# EAGLE library part SST26VF064BEUI (library memory-serial-flash-microchip)
64 Mbit Serial Quad I/O (SQI) Flash Memory with EUI-48™ and EUI-64™ Identifier
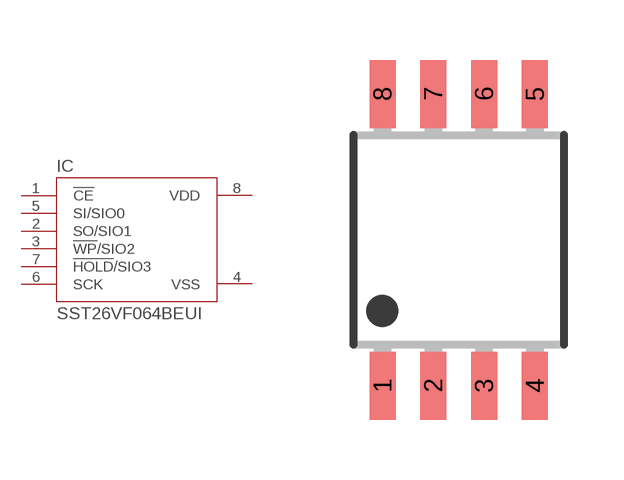
[diagram p0: symbol with the pads of SO8W; footprint SO8W]

Designator prefix IC

## SST26VF064BEUI  [SO8W]
1  !CE!
2  SO/SIO1
3  !WP!/SIO2
4  VSS
5  SI/SIO0
6  SCK
7  !HOLD!/SIO3
8  VDD

## Footprint SO8W (pad centres in mm)
8-Lead Plastic Small Outline (SM) - Medium, 5.28mm (.208 Inch) Body [SOIJ]
smd 0.65 x 1.7: 1 -1.905,-3.65; 2 -0.635,-3.65; 3 0.635,-3.65; 4 1.905,-3.65; 5 1.905,3.65; 6 0.635,3.65; 7 -0.635,3.65; 8 -1.905,3.65